# Altium footprint library B82464G4223M.PcbLib: 1 footprints
Each footprint in its own frame and in the unit in brackets; x right, y up, seen from the top. Pads: shape width x height; smd on the part's side, far side on the other; paste and mask are expansions set on the pad; w line width, h text height; cw(c..) or ccw(c..) is an arc to the next point about the centre after c.
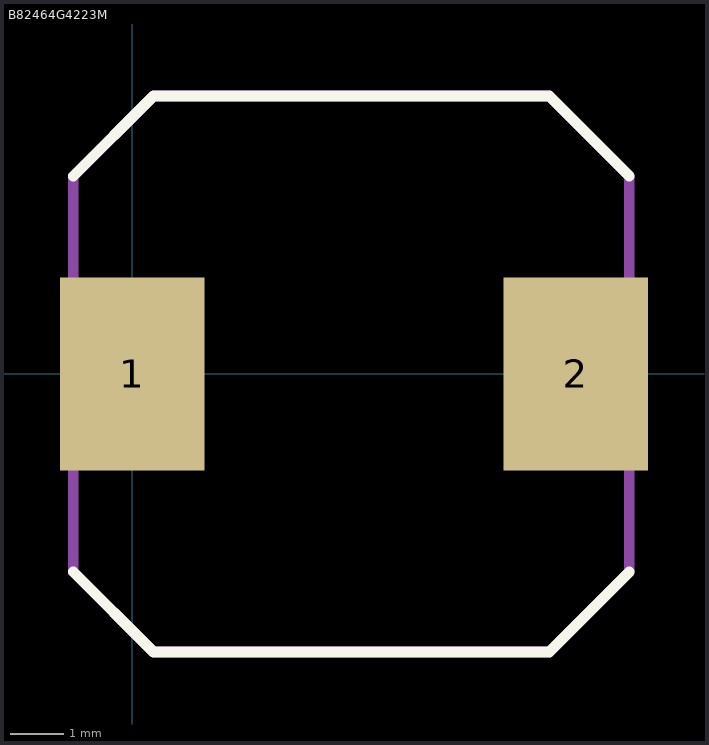
[diagram p0: the footprint, top view; thin cyan lines are the x and y axes]

## B82464G4223M [mm]
pads (2):
  rect 2.7x3.6 smd: 1(0,0) 2(8.3,0)
Top Overlay:
  lines w0.2: -1.1,-3.7 0.4,-5.2 7.8,-5.2 9.3,-3.7 ; -1.1,3.7 0.4,5.2 7.8,5.2 9.3,3.7
TopAssy:
  lines w0.2: -1.1,-3.7 0.4,-5.2 7.8,-5.2 9.3,-3.7 9.3,3.7 7.8,5.2 0.4,5.2 -1.1,3.7 -1.1,-3.7
3D body "User Library-B82464G4.step": height 4.81, standoff 0, extent -1.1,-5.2 9.3,5.2